# Altium integrated library BU2032-1.IntLib: 1 symbol
Pins are listed as number, name and electrical type; pins without a type are passive.

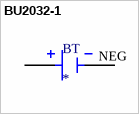
[diagram p0: symbol BU2032-1]

## BU2032-1
designator BT
HOLDER CR2032 W/ PC PINS; MF: MPD; MP: BU2032-1; Package: Non-Standard MPD; Value: *; DigiKey-Purchase-URL: https://snapeda.com/shop?store=DigiKey&id=4219651; SnapEDA_Link: https://www.snapeda.com/parts/BU2032-1/Memory%20Protection%20Devices/view-part/4219651/?ref=snap
footprint BAT_BU2032-1
pins: NEG, S1+ POS, S2+ POS